# Altium schematic symbol library TPL0202-10.SchLib: 1 symbol
Pins are listed as number, name and electrical type; pins without a type are passive.

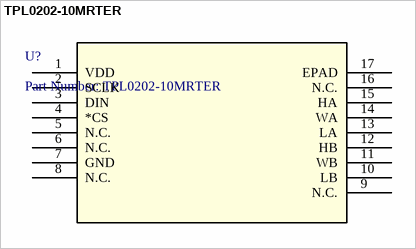
[diagram p0: symbol TPL0202-10MRTER]

## TPL0202-10MRTER
designator U?, comment Part Number: TPL0202-10MRTER
10 kOhm, 256-Taps Dual-Channel Digital Potentiometer With SPI Interface and Nonvolatile Memory; Vendor: Texas Instruments; Built_By: EMA_UL_Team; Manufacturer_Part_Number: TPL0202-10MRTER; Manufacturer: Texas Instruments; Copyright: Copyright (C) 2018 Accelerated Designs. All rights reserved; RefDes: RefDes; Type: DEV; Value: Value
footprint RTE16_0P8X0P8
pins: 1 VDD (power), 2 SCLK, 3 DIN, 4 *CS, 5 N.C., 6 N.C., 7 GND (power), 8 N.C., 9 N.C., 10 LB, 11 WB, 12 HB, 13 LA, 14 WA, 15 HA, 16 N.C., 17 EPAD